# Altium integrated library TI Power Management Linear Regulator Single Channel LDO (0-350mA).IntLib: 1648 symbols (part 31 of 66)
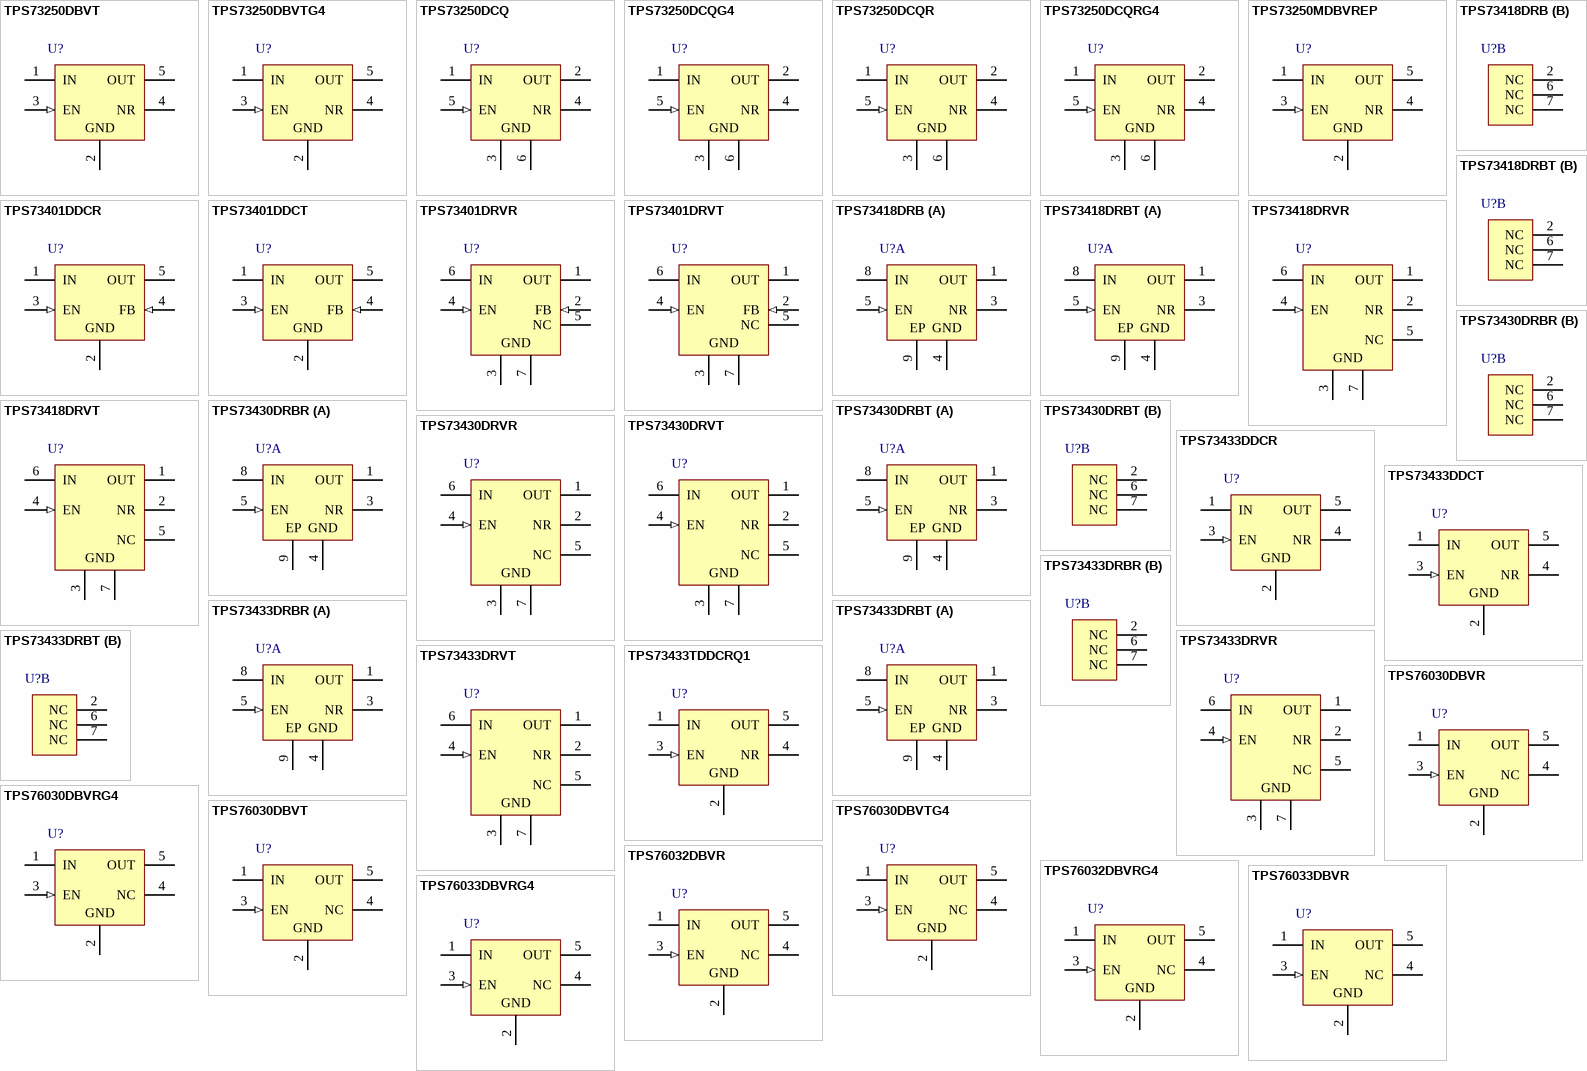
[diagram p72: symbols TPS73250DBVT to TPS76033DBVRG4]

## TPS73401DDCR
designator U?
Single Output High PSRR LDO, 250 mA, Adjustable 1.2 to 6.2 V Output, 2.7 to 6.5 V Input, with Low IQ, 5-pin SOT (DDC), -40 to 125 degC, Green (RoHS & no Sb/Br); Manufacturer: Texas Instruments; PartNumber: TPS73401DDCR; Accuracy(%): 2; Iout(Max)(A): 0.2; Iq(Typ)(mA): 0.04; Rating: Catalog; SubFamily: Single Channel LDO; Vdo(Typ)(mV): 125; Vin(Max)(V): 6.5; Vin(Min)(V): 2.7; Vout Adj(Max)(V): 6.2; Vout Adj(Min)(V): 1.2; DatasheetVersion: SBVS089F; PackageVersion: 4204403-2/E; PackageReference: DDC5; PackageDescription: 5-Pin Plastic Small Outline, Body 2.9 x 1.6 mm, 0.95 mm Pitch; Supplier 1: Digi-Key; Supplier Part Number 1: TPS73401DDCR-ND; Supplier 2: Newark; Supplier Part Number 2: 50R8165; Supplier 3: Mouser; Supplier Part Number 3: 595-TPS73401DDCR; Eco-Plan: Green (RoHS & no Sb/Br); Mounting Technology: Surface Mount; Code_JEDEC: MO-193; ComponentLink1Description: Manufacturer URL; ComponentLink1URL: http://www.ti.com/; ComponentLink2Description: Datasheet; ComponentLink2URL: http://www.ti.com/general/docs/lit/getliterature.tsp?genericPartNumber=TPS73401&fileType=pdf; ComponentLink3Description: Package Specification; ComponentLink3URL: http://www.ti.com/litv/pdf/mpds123d
footprint TI-DDC5_N (SOT23, 5-Leads, Body 2.9x1.6mm, Pitch 0.95mm, IPC Medium Density)
footprint TI-DDC5_L (SOT23, 5-Leads, Body 2.9x1.6mm, Pitch 0.95mm, IPC High Density)
footprint TI-DDC5_M (SOT23, 5-Leads, Body 2.9x1.6mm, Pitch 0.95mm, IPC Low Density)
pins: 1 IN (power) "Input pin. A small capacitor is needed from this pin to ground to assure stability. Typical input capacitor = 1.0uF. Both input and output capacitor grounds should be tied back to the IC ground with no significant impedance (See Datasheet)", 2 GND (power) "Ground pin.", 3 EN (in) "Driving the enable pin (EN) over 1.2V turns on the regulator. Driving this pin below 0.4V puts the regulator into shutdown mode, reducing operating current to 18nA typical.", 4 FB (in) "Feedback pin (FB) for adjustable versions", 5 OUT (power) "Regulated output voltage pin. A small 1-uF ceramic capacitor is needed from this pin to ground to assure stability.See Input and Output Capacitor Requirements in the Application Information section for more details."

## TPS73401DDCT
designator U?
Single Output High PSRR LDO, 250 mA, Adjustable 1.2 to 6.2 V Output, 2.7 to 6.5 V Input, with Low IQ, 5-pin SOT (DDC), -40 to 125 degC, Green (RoHS & no Sb/Br); Manufacturer: Texas Instruments; PartNumber: TPS73401DDCT; Accuracy(%): 2; Iout(Max)(A): 0.2; Iq(Typ)(mA): 0.04; Rating: Catalog; SubFamily: Single Channel LDO; Vdo(Typ)(mV): 125; Vin(Max)(V): 6.5; Vin(Min)(V): 2.7; Vout Adj(Max)(V): 6.2; Vout Adj(Min)(V): 1.2; DatasheetVersion: SBVS089F; PackageVersion: 4204403-2/E; PackageReference: DDC5; PackageDescription: 5-Pin Plastic Small Outline, Body 2.9 x 1.6 mm, 0.95 mm Pitch; Supplier 1: Digi-Key; Supplier Part Number 1: 296-25163-2-ND; Supplier 2: Digi-Key; Supplier Part Number 2: 296-25163-1-ND; Supplier 3: Digi-Key; Supplier Part Number 3: 296-25163-6-ND; Supplier 4: Newark; Supplier Part Number 4: 50R8166; Supplier 5: Mouser; Supplier Part Number 5: 595-TPS73401DDCT; Eco-Plan: Green (RoHS & no Sb/Br); Mounting Technology: Surface Mount; Code_JEDEC: MO-193; ComponentLink1Description: Manufacturer URL; ComponentLink1URL: http://www.ti.com/; ComponentLink2Description: Datasheet; ComponentLink2URL: http://www.ti.com/general/docs/lit/getliterature.tsp?genericPartNumber=TPS73401&fileType=pdf; ComponentLink3Description: Package Specification; ComponentLink3URL: http://www.ti.com/litv/pdf/mpds123d
footprint TI-DDC5_N (SOT23, 5-Leads, Body 2.9x1.6mm, Pitch 0.95mm, IPC Medium Density)
footprint TI-DDC5_L (SOT23, 5-Leads, Body 2.9x1.6mm, Pitch 0.95mm, IPC High Density)
footprint TI-DDC5_M (SOT23, 5-Leads, Body 2.9x1.6mm, Pitch 0.95mm, IPC Low Density)
pins: 1 IN (power) "Input pin. A small capacitor is needed from this pin to ground to assure stability. Typical input capacitor = 1.0uF. Both input and output capacitor grounds should be tied back to the IC ground with no significant impedance (See Datasheet)", 2 GND (power) "Ground pin.", 3 EN (in) "Driving the enable pin (EN) over 1.2V turns on the regulator. Driving this pin below 0.4V puts the regulator into shutdown mode, reducing operating current to 18nA typical.", 4 FB (in) "Feedback pin (FB) for adjustable versions", 5 OUT (power) "Regulated output voltage pin. A small 1-uF ceramic capacitor is needed from this pin to ground to assure stability.See Input and Output Capacitor Requirements in the Application Information section for more details."

## TPS73401DRVR
designator U?
Single Output High PSRR LDO, 250 mA, Adjustable 1.2 to 6.2 V Output, 2.7 to 6.5 V Input, with Low IQ, 6-pin SON (DRV), -40 to 125 degC, Green (RoHS & no Sb/Br); Manufacturer: Texas Instruments; PartNumber: TPS73401DRVR; Accuracy(%): 2; Iout(Max)(A): 0.2; Iq(Typ)(mA): 0.04; Rating: Catalog; SubFamily: Single Channel LDO; Vdo(Typ)(mV): 125; Vin(Max)(V): 6.5; Vin(Min)(V): 2.7; Vout Adj(Max)(V): 6.2; Vout Adj(Min)(V): 1.2; DatasheetVersion: SBVS089F; PackageVersion: 4206925/E; PackageReference: DRV6-1600X1000TP; PackageDescription: 6-Pin Plastic Small Outline No-Lead, Body 2 x 2 mm, Pitch 0.65 mm; Supplier 1: Digi-Key; Supplier Part Number 1: TPS73401DRVR-ND; Supplier 2: Newark; Supplier Part Number 2: 09R6704; Supplier 3: Mouser; Supplier Part Number 3: 595-TPS73401DRVR; Eco-Plan: Green (RoHS & no Sb/Br); Mounting Technology: Surface Mount; ComponentLink1Description: Manufacturer URL; ComponentLink1URL: http://www.ti.com/; ComponentLink2Description: Datasheet; ComponentLink2URL: http://www.ti.com/general/docs/lit/getliterature.tsp?genericPartNumber=TPS73401&fileType=pdf; ComponentLink3Description: Package Specification; ComponentLink3URL: http://www.ti.com/litv/pdf/mpds216d
footprint TI-DRV6-1600X1000TP_V (SON, 6-Leads, Body 2x2mm, Pitch 0.65mm, Thermal Pad 1X1.6mm)
pins: 1 OUT (power) "Output of the regulator. A small capacitor (total typical capacitance = 2.0uF ceramic) is needed from this pin to ground to assure stability.", 2 FB (in) "Adjustable version only; this is the input to the control loop error amplifier, and is used to set the output voltage of the device.", 3 GND (power) "Ground", 4 EN (in) "Driving the enable pin (EN) high turns on the regulator. Driving this pin low puts the regulator into shutdown mode. EN can be connected to IN if not used.", 5 NC "Not internally connected. This pin must either be left open, or tied to GND.", 6 IN (power) "Input supply.", 7 GND (power) "The pad must be tied to GND."

## TPS73401DRVT
designator U?
Single Output High PSRR LDO, 250 mA, Adjustable 1.2 to 6.2 V Output, 2.7 to 6.5 V Input, with Low IQ, 6-pin SON (DRV), -40 to 125 degC, Green (RoHS & no Sb/Br); Manufacturer: Texas Instruments; PartNumber: TPS73401DRVT; Accuracy(%): 2; Iout(Max)(A): 0.2; Iq(Typ)(mA): 0.04; Rating: Catalog; SubFamily: Single Channel LDO; Vdo(Typ)(mV): 125; Vin(Max)(V): 6.5; Vin(Min)(V): 2.7; Vout Adj(Max)(V): 6.2; Vout Adj(Min)(V): 1.2; DatasheetVersion: SBVS089F; PackageVersion: 4206925/E; PackageReference: DRV6-1600X1000TP; PackageDescription: 6-Pin Plastic Small Outline No-Lead, Body 2 x 2 mm, Pitch 0.65 mm; Supplier 1: Digi-Key; Supplier Part Number 1: 296-24286-2-ND; Supplier 2: Digi-Key; Supplier Part Number 2: 296-24286-1-ND; Supplier 3: Digi-Key; Supplier Part Number 3: 296-24286-6-ND; Supplier 4: Farnell; Supplier Part Number 4: 1710828RL; Supplier 5: Newark; Supplier Part Number 5: 04R6651; Supplier 6: Mouser; Supplier Part Number 6: 595-TPS73401DRVT; Eco-Plan: Green (RoHS & no Sb/Br); Mounting Technology: Surface Mount; ComponentLink1Description: Manufacturer URL; ComponentLink1URL: http://www.ti.com/; ComponentLink2Description: Datasheet; ComponentLink2URL: http://www.ti.com/general/docs/lit/getliterature.tsp?genericPartNumber=TPS73401&fileType=pdf; ComponentLink3Description: Package Specification; ComponentLink3URL: http://www.ti.com/litv/pdf/mpds216d
footprint TI-DRV6-1600X1000TP_V (SON, 6-Leads, Body 2x2mm, Pitch 0.65mm, Thermal Pad 1X1.6mm)
pins: 1 OUT (power) "Output of the regulator. A small capacitor (total typical capacitance = 2.0uF ceramic) is needed from this pin to ground to assure stability.", 2 FB (in) "Adjustable version only; this is the input to the control loop error amplifier, and is used to set the output voltage of the device.", 3 GND (power) "Ground", 4 EN (in) "Driving the enable pin (EN) high turns on the regulator. Driving this pin low puts the regulator into shutdown mode. EN can be connected to IN if not used.", 5 NC "Not internally connected. This pin must either be left open, or tied to GND.", 6 IN (power) "Input supply.", 7 GND (power) "The pad must be tied to GND."

## TPS73418DRB
designator U?
Single Output High PSRR LDO, 250 mA, Fixed 1.8 V Output, 2.7 to 6.5 V Input, with Low IQ, 8-pin SON (DRB), -40 to 125 degC; Manufacturer: Texas Instruments; PartNumber: TPS73418DRB; Accuracy(%): 2; Fixed Output Options(V): 1.8; Iout(Max)(A): 0.2; Iq(Typ)(mA): 0.04; Rating: Catalog; SubFamily: Single Channel LDO; Vdo(Typ)(mV): 125; Vin(Max)(V): 6.5; Vin(Min)(V): 2.7; DatasheetVersion: SBVS089F; PackageVersion: 4203482-2/K; PackageReference: DRB8-2400X1650TP; PackageDescription: 8-Pin Plastic Small Outline, Body 3 x 3 mm, Pitch 0.65 mm; Vout Adj(Max)(V): 1.8; Vout Adj(Min)(V): 1.8; Mounting Technology: Surface Mount; ComponentLink1Description: Manufacturer URL; ComponentLink1URL: http://www.ti.com/; ComponentLink2Description: Datasheet; ComponentLink2URL: http://www.ti.com/general/docs/lit/getliterature.tsp?genericPartNumber=TPS73418&fileType=pdf; ComponentLink3Description: Package Specification; ComponentLink3URL: http://www.ti.com/litv/pdf/mpds118h
footprint TI-DRB8-2400X1650TP_V (SON, 8-Leads, Body 3x3mm, Pitch 0.65mm, Thermal Pad 2.4x1.65mm)
part A pins: 1 OUT (power) "Output of the regulator. A small capacitor (total typical capacitance >= 2.0uF ceramic) is needed from this pin to ground to assure stability.", 3 NR "Fixed voltage versions only; connecting an external capacitor to this pin bypasses noise generated by the internal bandgap. This allows output noise to be reduced to very low levels.", 4 GND (power) "Ground. The pad must be tied to GND.", 5 EN (in) "Driving the enable pin (EN) high turns on the regulator. Driving this pin low puts the regulator into shutdown mode. EN can be connected to IN if not used.", 8 IN (power) "Input supply.", 9 EP (power) "The pad must be tied to GND."
part B pins: 2 NC "Not internally connected. This pin must either be left open, or tied to GND.", 6 NC "Not internally connected. This pin must either be left open, or tied to GND.", 7 NC "Not internally connected. This pin must either be left open, or tied to GND."

## TPS73418DRBT
designator U?
Single Output High PSRR LDO, 250 mA, Fixed 1.8 V Output, 2.7 to 6.5 V Input, with Low IQ, 8-pin SON (DRB), -40 to 125 degC; Manufacturer: Texas Instruments; PartNumber: TPS73418DRBT; Accuracy(%): 2; Fixed Output Options(V): 1.8; Iout(Max)(A): 0.2; Iq(Typ)(mA): 0.04; Rating: Catalog; SubFamily: Single Channel LDO; Vdo(Typ)(mV): 125; Vin(Max)(V): 6.5; Vin(Min)(V): 2.7; DatasheetVersion: SBVS089F; PackageVersion: 4203482-2/K; PackageReference: DRB8-2400X1650TP; PackageDescription: 8-Pin Plastic Small Outline, Body 3 x 3 mm, Pitch 0.65 mm; Supplier 1: Mouser; Supplier Part Number 1: N/A; Vout Adj(Max)(V): 1.8; Vout Adj(Min)(V): 1.8; Mounting Technology: Surface Mount; ComponentLink1Description: Manufacturer URL; ComponentLink1URL: http://www.ti.com/; ComponentLink2Description: Datasheet; ComponentLink2URL: http://www.ti.com/general/docs/lit/getliterature.tsp?genericPartNumber=TPS73418&fileType=pdf; ComponentLink3Description: Package Specification; ComponentLink3URL: http://www.ti.com/litv/pdf/mpds118h
footprint TI-DRB8-2400X1650TP_V (SON, 8-Leads, Body 3x3mm, Pitch 0.65mm, Thermal Pad 2.4x1.65mm)
part A pins: 1 OUT (power) "Output of the regulator. A small capacitor (total typical capacitance >= 2.0uF ceramic) is needed from this pin to ground to assure stability.", 3 NR "Fixed voltage versions only; connecting an external capacitor to this pin bypasses noise generated by the internal bandgap. This allows output noise to be reduced to very low levels.", 4 GND (power) "Ground. The pad must be tied to GND.", 5 EN (in) "Driving the enable pin (EN) high turns on the regulator. Driving this pin low puts the regulator into shutdown mode. EN can be connected to IN if not used.", 8 IN (power) "Input supply.", 9 EP (power) "The pad must be tied to GND."
part B pins: 2 NC "Not internally connected. This pin must either be left open, or tied to GND.", 6 NC "Not internally connected. This pin must either be left open, or tied to GND.", 7 NC "Not internally connected. This pin must either be left open, or tied to GND."

## TPS73418DRVR
designator U?
Single Output High PSRR LDO, 250 mA, Fixed 1.8 V Output, 2.7 to 6.5 V Input, with Low IQ, 6-pin SON (DRV), -40 to 125 degC, Green (RoHS & no Sb/Br); Manufacturer: Texas Instruments; PartNumber: TPS73418DRVR; Accuracy(%): 2; Fixed Output Options(V): 1.8; Iout(Max)(A): 0.2; Iq(Typ)(mA): 0.04; Rating: Catalog; SubFamily: Single Channel LDO; Vdo(Typ)(mV): 125; Vin(Max)(V): 6.5; Vin(Min)(V): 2.7; DatasheetVersion: SBVS089F; PackageVersion: 4206925/E; PackageReference: DRV6-1600X1000TP; PackageDescription: 6-Pin Plastic Small Outline No-Lead, Body 2 x 2 mm, Pitch 0.65 mm; Supplier 1: Digi-Key; Supplier Part Number 1: TPS73418DRVR-ND; Supplier 2: Newark; Supplier Part Number 2: 09R6705; Supplier 3: Mouser; Supplier Part Number 3: 595-TPS73418DRVR; Eco-Plan: Green (RoHS & no Sb/Br); Vout Adj(Max)(V): 1.8; Vout Adj(Min)(V): 1.8; Mounting Technology: Surface Mount; ComponentLink1Description: Manufacturer URL; ComponentLink1URL: http://www.ti.com/; ComponentLink2Description: Datasheet; ComponentLink2URL: http://www.ti.com/general/docs/lit/getliterature.tsp?genericPartNumber=TPS73418&fileType=pdf; ComponentLink3Description: Package Specification; ComponentLink3URL: http://www.ti.com/litv/pdf/mpds216d
footprint TI-DRV6-1600X1000TP_V (SON, 6-Leads, Body 2x2mm, Pitch 0.65mm, Thermal Pad 1X1.6mm)
pins: 1 OUT (power) "Output of the regulator. A small capacitor (total typical capacitance >= 2.0uF ceramic) is needed from this pin to ground to assure stability.", 2 NR "Fixed voltage versions only; connecting an external capacitor to this pin bypasses noise generated by the internal bandgap. This allows output noise to be reduced to very low levels.", 3 GND (power) "Ground", 4 EN (in) "Driving the enable pin (EN) high turns on the regulator. Driving this pin low puts the regulator into shutdown mode. EN can be connected to IN if not used.", 5 NC "Not internally connected. This pin must either be left open, or tied to GND.", 6 IN (power) "Input supply.", 7 GND (power) "The pad must be tied to GND."

## TPS73418DRVT
designator U?
Single Output High PSRR LDO, 250 mA, Fixed 1.8 V Output, 2.7 to 6.5 V Input, with Low IQ, 6-pin SON (DRV), -40 to 125 degC, Green (RoHS & no Sb/Br); Manufacturer: Texas Instruments; PartNumber: TPS73418DRVT; Accuracy(%): 2; Fixed Output Options(V): 1.8; Iout(Max)(A): 0.2; Iq(Typ)(mA): 0.04; Rating: Catalog; SubFamily: Single Channel LDO; Vdo(Typ)(mV): 125; Vin(Max)(V): 6.5; Vin(Min)(V): 2.7; DatasheetVersion: SBVS089F; PackageVersion: 4206925/E; PackageReference: DRV6-1600X1000TP; PackageDescription: 6-Pin Plastic Small Outline No-Lead, Body 2 x 2 mm, Pitch 0.65 mm; Supplier 1: Digi-Key; Supplier Part Number 1: 296-24287-2-ND; Supplier 2: Digi-Key; Supplier Part Number 2: 296-24287-1-ND; Supplier 3: Digi-Key; Supplier Part Number 3: 296-24287-6-ND; Supplier 4: Newark; Supplier Part Number 4: 04R6652; Supplier 5: Mouser; Supplier Part Number 5: 595-TPS73418DRVT; Eco-Plan: Green (RoHS & no Sb/Br); Vout Adj(Max)(V): 1.8; Vout Adj(Min)(V): 1.8; Mounting Technology: Surface Mount; ComponentLink1Description: Manufacturer URL; ComponentLink1URL: http://www.ti.com/; ComponentLink2Description: Datasheet; ComponentLink2URL: http://www.ti.com/general/docs/lit/getliterature.tsp?genericPartNumber=TPS73418&fileType=pdf; ComponentLink3Description: Package Specification; ComponentLink3URL: http://www.ti.com/litv/pdf/mpds216d
footprint TI-DRV6-1600X1000TP_V (SON, 6-Leads, Body 2x2mm, Pitch 0.65mm, Thermal Pad 1X1.6mm)
pins: 1 OUT (power) "Output of the regulator. A small capacitor (total typical capacitance >= 2.0uF ceramic) is needed from this pin to ground to assure stability.", 2 NR "Fixed voltage versions only; connecting an external capacitor to this pin bypasses noise generated by the internal bandgap. This allows output noise to be reduced to very low levels.", 3 GND (power) "Ground", 4 EN (in) "Driving the enable pin (EN) high turns on the regulator. Driving this pin low puts the regulator into shutdown mode. EN can be connected to IN if not used.", 5 NC "Not internally connected. This pin must either be left open, or tied to GND.", 6 IN (power) "Input supply.", 7 GND (power) "The pad must be tied to GND."

## TPS73430DRBR
designator U?
Single Output High PSRR LDO, 250 mA, Fixed 3 V Output, 2.7 to 6.5 V Input, with Low IQ, 8-pin SON (DRB), -40 to 125 degC; Manufacturer: Texas Instruments; PartNumber: TPS73430DRBR; Accuracy(%): 2; Fixed Output Options(V): 3; Iout(Max)(A): 0.2; Iq(Typ)(mA): 0.04; Rating: Catalog; SubFamily: Single Channel LDO; Vdo(Typ)(mV): 125; Vin(Max)(V): 6.5; Vin(Min)(V): 2.7; DatasheetVersion: SBVS089F; PackageVersion: 4203482-2/K; PackageReference: DRB8-2400X1650TP; PackageDescription: 8-Pin Plastic Small Outline, Body 3 x 3 mm, Pitch 0.65 mm; Supplier 1: Mouser; Supplier Part Number 1: N/A; Vout Adj(Max)(V): 3; Vout Adj(Min)(V): 3; Mounting Technology: Surface Mount; ComponentLink1Description: Manufacturer URL; ComponentLink1URL: http://www.ti.com/; ComponentLink2Description: Datasheet; ComponentLink2URL: http://www.ti.com/general/docs/lit/getliterature.tsp?genericPartNumber=TPS73430&fileType=pdf; ComponentLink3Description: Package Specification; ComponentLink3URL: http://www.ti.com/litv/pdf/mpds118h
footprint TI-DRB8-2400X1650TP_V (SON, 8-Leads, Body 3x3mm, Pitch 0.65mm, Thermal Pad 2.4x1.65mm)
part A pins: 1 OUT (power) "Output of the regulator. A small capacitor (total typical capacitance >= 2.0 uF ceramic) is needed from this pin to ground to assure stability.", 3 NR "Fixed voltage versions only; connecting an external capacitor to this pin bypasses noise generated by the internal bandgap. This allows output noise to be reduced to very low levels.", 4 GND (power) "Ground. The pad must be tied to GND.", 5 EN (in) "Driving the enable pin (EN) high turns on the regulator. Driving this pin low puts the regulator into shutdownmode .EN can be connected to IN if not used.", 8 IN (power) "Input supply.", 9 EP (power) "The pad must be tied to GND."
part B pins: 2 NC "Not internally connected. This pin must either be left open, or tied to GND.", 6 NC "Not internally connected. This pin must either be left open, or tied to GND.", 7 NC "Not internally connected. This pin must either be left open, or tied to GND."

## TPS73430DRBT
designator U?
Single Output High PSRR LDO, 250 mA, Fixed 3 V Output, 2.7 to 6.5 V Input, with Low IQ, 8-pin SON (DRB), -40 to 125 degC; Manufacturer: Texas Instruments; PartNumber: TPS73430DRBT; Accuracy(%): 2; Fixed Output Options(V): 3; Iout(Max)(A): 0.2; Iq(Typ)(mA): 0.04; Rating: Catalog; SubFamily: Single Channel LDO; Vdo(Typ)(mV): 125; Vin(Max)(V): 6.5; Vin(Min)(V): 2.7; DatasheetVersion: SBVS089F; PackageVersion: 4203482-2/K; PackageReference: DRB8-2400X1650TP; PackageDescription: 8-Pin Plastic Small Outline, Body 3 x 3 mm, Pitch 0.65 mm; Supplier 1: Mouser; Supplier Part Number 1: N/A; Vout Adj(Max)(V): 3; Vout Adj(Min)(V): 3; Mounting Technology: Surface Mount; ComponentLink1Description: Manufacturer URL; ComponentLink1URL: http://www.ti.com/; ComponentLink2Description: Datasheet; ComponentLink2URL: http://www.ti.com/general/docs/lit/getliterature.tsp?genericPartNumber=TPS73430&fileType=pdf; ComponentLink3Description: Package Specification; ComponentLink3URL: http://www.ti.com/litv/pdf/mpds118h
footprint TI-DRB8-2400X1650TP_V (SON, 8-Leads, Body 3x3mm, Pitch 0.65mm, Thermal Pad 2.4x1.65mm)
part A pins: 1 OUT (power) "Output of the regulator. A small capacitor (total typical capacitance >= 2.0 uF ceramic) is needed from this pin to ground to assure stability.", 3 NR "Fixed voltage versions only; connecting an external capacitor to this pin bypasses noise generated by the internal bandgap. This allows output noise to be reduced to very low levels.", 4 GND (power) "Ground. The pad must be tied to GND.", 5 EN (in) "Driving the enable pin (EN) high turns on the regulator. Driving this pin low puts the regulator into shutdownmode .EN can be connected to IN if not used.", 8 IN (power) "Input supply.", 9 EP (power) "The pad must be tied to GND."
part B pins: 2 NC "Not internally connected. This pin must either be left open, or tied to GND.", 6 NC "Not internally connected. This pin must either be left open, or tied to GND.", 7 NC "Not internally connected. This pin must either be left open, or tied to GND."

## TPS73430DRVR
designator U?
Single Output High PSRR LDO, 250 mA, Fixed 3 V Output, 2.7 to 6.5 V Input, with Low IQ, 6-pin SON (DRV), -40 to 125 degC, Green (RoHS & no Sb/Br); Manufacturer: Texas Instruments; PartNumber: TPS73430DRVR; Accuracy(%): 2; Fixed Output Options(V): 3; Iout(Max)(A): 0.2; Iq(Typ)(mA): 0.04; Rating: Catalog; SubFamily: Single Channel LDO; Vdo(Typ)(mV): 125; Vin(Max)(V): 6.5; Vin(Min)(V): 2.7; DatasheetVersion: SBVS089F; PackageVersion: 4206925/E; PackageReference: DRV6-1600X1000TP; PackageDescription: 6-Pin Plastic Small Outline No-Lead, Body 2 x 2 mm, Pitch 0.65 mm; Supplier 1: Digi-Key; Supplier Part Number 1: TPS73430DRVR-ND; Supplier 2: Newark; Supplier Part Number 2: 09R6706; Supplier 3: Mouser; Supplier Part Number 3: 595-TPS73430DRVR; Eco-Plan: Green (RoHS & no Sb/Br); Vout Adj(Max)(V): 3; Vout Adj(Min)(V): 3; Mounting Technology: Surface Mount; ComponentLink1Description: Manufacturer URL; ComponentLink1URL: http://www.ti.com/; ComponentLink2Description: Datasheet; ComponentLink2URL: http://www.ti.com/general/docs/lit/getliterature.tsp?genericPartNumber=TPS73430&fileType=pdf; ComponentLink3Description: Package Specification; ComponentLink3URL: http://www.ti.com/litv/pdf/mpds216d
footprint TI-DRV6-1600X1000TP_V (SON, 6-Leads, Body 2x2mm, Pitch 0.65mm, Thermal Pad 1X1.6mm)
pins: 1 OUT (power) "Output of the regulator. A small capacitor (total typical capacitance >= 2.0uF ceramic) is needed from this pin to ground to assure stability.", 2 NR "Fixed voltage versions only; connecting an external capacitor to this pin bypasses noise generated by the internal bandgap. This allows output noise to be reduced to very low levels.", 3 GND (power) "Ground", 4 EN (in) "Driving the enable pin (EN) high turns on the regulator. Driving this pin low puts the regulator into shutdown mode. EN can be connected to IN if not used.", 5 NC "Not internally connected. This pin must either be left open, or tied to GND.", 6 IN (power) "Input supply.", 7 GND (power) "The pad must be tied to GND."

## TPS73430DRVT
designator U?
Single Output High PSRR LDO, 250 mA, Fixed 3 V Output, 2.7 to 6.5 V Input, with Low IQ, 6-pin SON (DRV), -40 to 125 degC, Green (RoHS & no Sb/Br); Manufacturer: Texas Instruments; PartNumber: TPS73430DRVT; Accuracy(%): 2; Fixed Output Options(V): 3; Iout(Max)(A): 0.2; Iq(Typ)(mA): 0.04; Rating: Catalog; SubFamily: Single Channel LDO; Vdo(Typ)(mV): 125; Vin(Max)(V): 6.5; Vin(Min)(V): 2.7; DatasheetVersion: SBVS089F; PackageVersion: 4206925/E; PackageReference: DRV6-1600X1000TP; PackageDescription: 6-Pin Plastic Small Outline No-Lead, Body 2 x 2 mm, Pitch 0.65 mm; Supplier 1: Digi-Key; Supplier Part Number 1: 296-24288-2-ND; Supplier 2: Digi-Key; Supplier Part Number 2: 296-24288-1-ND; Supplier 3: Digi-Key; Supplier Part Number 3: 296-24288-6-ND; Supplier 4: Farnell; Supplier Part Number 4: 1710830; Supplier 5: Farnell; Supplier Part Number 5: 1710830RL; Supplier 6: Newark; Supplier Part Number 6: 04R6653; Supplier 7: Mouser; Supplier Part Number 7: 595-TPS73430DRVT; Eco-Plan: Green (RoHS & no Sb/Br); Vout Adj(Max)(V): 3; Vout Adj(Min)(V): 3; Mounting Technology: Surface Mount; ComponentLink1Description: Manufacturer URL; ComponentLink1URL: http://www.ti.com/; ComponentLink2Description: Datasheet; ComponentLink2URL: http://www.ti.com/general/docs/lit/getliterature.tsp?genericPartNumber=TPS73430&fileType=pdf; ComponentLink3Description: Package Specification; ComponentLink3URL: http://www.ti.com/litv/pdf/mpds216d
footprint TI-DRV6-1600X1000TP_V (SON, 6-Leads, Body 2x2mm, Pitch 0.65mm, Thermal Pad 1X1.6mm)
pins: 1 OUT (power) "Output of the regulator. A small capacitor (total typical capacitance >= 2.0uF ceramic) is needed from this pin to ground to assure stability.", 2 NR "Fixed voltage versions only; connecting an external capacitor to this pin bypasses noise generated by the internal bandgap. This allows output noise to be reduced to very low levels.", 3 GND (power) "Ground", 4 EN (in) "Driving the enable pin (EN) high turns on the regulator. Driving this pin low puts the regulator into shutdown mode. EN can be connected to IN if not used.", 5 NC "Not internally connected. This pin must either be left open, or tied to GND.", 6 IN (power) "Input supply.", 7 GND (power) "The pad must be tied to GND."

## TPS73433DDCR
designator U?
Single Output High PSRR LDO, 250 mA, Fixed 3.3 V Output, 2.7 to 6.5 V Input, with Low IQ, 5-pin SOT (DDC), -40 to 125 degC, Green (RoHS & no Sb/Br); Manufacturer: Texas Instruments; PartNumber: TPS73433DDCR; Accuracy(%): 2; Fixed Output Options(V): 3.3; Iout(Max)(A): 0.2; Iq(Typ)(mA): 0.04; Rating: Catalog; SubFamily: Single Channel LDO; Vdo(Typ)(mV): 125; Vin(Max)(V): 6.5; Vin(Min)(V): 2.7; DatasheetVersion: SBVS089F; PackageVersion: 4204403-2/E; PackageReference: DDC5; PackageDescription: 5-Pin Plastic Small Outline, Body 2.9 x 1.6 mm, 0.95 mm Pitch; Supplier 1: Digi-Key; Supplier Part Number 1: TPS73433DDCR-ND; Supplier 2: Mouser; Supplier Part Number 2: 595-TPS73433DDCR; Eco-Plan: Green (RoHS & no Sb/Br); Vout Adj(Max)(V): 3.3; Vout Adj(Min)(V): 3.3; Mounting Technology: Surface Mount; Code_JEDEC: MO-193; ComponentLink1Description: Manufacturer URL; ComponentLink1URL: http://www.ti.com/; ComponentLink2Description: Datasheet; ComponentLink2URL: http://www.ti.com/general/docs/lit/getliterature.tsp?genericPartNumber=TPS73433&fileType=pdf; ComponentLink3Description: Package Specification; ComponentLink3URL: http://www.ti.com/litv/pdf/mpds123d
footprint TI-DDC5_N (SOT23, 5-Leads, Body 2.9x1.6mm, Pitch 0.95mm, IPC Medium Density)
footprint TI-DDC5_L (SOT23, 5-Leads, Body 2.9x1.6mm, Pitch 0.95mm, IPC High Density)
footprint TI-DDC5_M (SOT23, 5-Leads, Body 2.9x1.6mm, Pitch 0.95mm, IPC Low Density)
pins: 1 IN (power) "Input supply.", 2 GND (power) "Ground.", 3 EN (in) "Driving the enable pin (EN) high turns on the regulator .Driving this pin low puts the regulator into shutdown mode.EN can be connected to IN if not used.", 4 NR "Fixed voltage versions only; connecting an external capacitor to this pin bypasses noise generated by the internal bandgap. This capacitor allows output noise to be reduced to very low levels.", 5 OUT (power) "Output for the regulator. A small capacitor (total typical capacitance >= 2.0uF ceramic) is needed from this pin to ground to assure stability."

## TPS73433DDCT
designator U?
Single Output High PSRR LDO, 250 mA, Fixed 3.3 V Output, 2.7 to 6.5 V Input, with Low IQ, 5-pin SOT (DDC), -40 to 125 degC, Green (RoHS & no Sb/Br); Manufacturer: Texas Instruments; PartNumber: TPS73433DDCT; Accuracy(%): 2; Fixed Output Options(V): 3.3; Iout(Max)(A): 0.2; Iq(Typ)(mA): 0.04; Rating: Catalog; SubFamily: Single Channel LDO; Vdo(Typ)(mV): 125; Vin(Max)(V): 6.5; Vin(Min)(V): 2.7; DatasheetVersion: SBVS089F; PackageVersion: 4204403-2/E; PackageReference: DDC5; PackageDescription: 5-Pin Plastic Small Outline, Body 2.9 x 1.6 mm, 0.95 mm Pitch; Supplier 1: Digi-Key; Supplier Part Number 1: 296-25164-2-ND; Supplier 2: Digi-Key; Supplier Part Number 2: 296-25164-1-ND; Supplier 3: Digi-Key; Supplier Part Number 3: 296-25164-6-ND; Supplier 4: Newark; Supplier Part Number 4: 50R8169; Supplier 5: Mouser; Supplier Part Number 5: 595-TPS73433DDCT; Eco-Plan: Green (RoHS & no Sb/Br); Vout Adj(Max)(V): 3.3; Vout Adj(Min)(V): 3.3; Mounting Technology: Surface Mount; Code_JEDEC: MO-193; ComponentLink1Description: Manufacturer URL; ComponentLink1URL: http://www.ti.com/; ComponentLink2Description: Datasheet; ComponentLink2URL: http://www.ti.com/general/docs/lit/getliterature.tsp?genericPartNumber=TPS73433&fileType=pdf; ComponentLink3Description: Package Specification; ComponentLink3URL: http://www.ti.com/litv/pdf/mpds123d
footprint TI-DDC5_N (SOT23, 5-Leads, Body 2.9x1.6mm, Pitch 0.95mm, IPC Medium Density)
footprint TI-DDC5_L (SOT23, 5-Leads, Body 2.9x1.6mm, Pitch 0.95mm, IPC High Density)
footprint TI-DDC5_M (SOT23, 5-Leads, Body 2.9x1.6mm, Pitch 0.95mm, IPC Low Density)
pins: 1 IN (power) "Input supply.", 2 GND (power) "Ground.", 3 EN (in) "Driving the enable pin (EN) high turns on the regulator .Driving this pin low puts the regulator into shutdown mode.EN can be connected to IN if not used.", 4 NR "Fixed voltage versions only; connecting an external capacitor to this pin bypasses noise generated by the internal bandgap. This capacitor allows output noise to be reduced to very low levels.", 5 OUT (power) "Output for the regulator. A small capacitor (total typical capacitance >= 2.0uF ceramic) is needed from this pin to ground to assure stability."

## TPS73433DRBR
designator U?
Single Output High PSRR LDO, 250 mA, Fixed 3.3 V Output, 2.7 to 6.5 V Input, with Low IQ, 8-pin SON (DRB), -40 to 125 degC; Manufacturer: Texas Instruments; PartNumber: TPS73433DRBR; Accuracy(%): 2; Fixed Output Options(V): 3.3; Iout(Max)(A): 0.2; Iq(Typ)(mA): 0.04; Rating: Catalog; SubFamily: Single Channel LDO; Vdo(Typ)(mV): 125; Vin(Max)(V): 6.5; Vin(Min)(V): 2.7; DatasheetVersion: SBVS089F; PackageVersion: 4203482-2/K; PackageReference: DRB8-2400X1650TP; PackageDescription: 8-Pin Plastic Small Outline, Body 3 x 3 mm, Pitch 0.65 mm; Supplier 1: Mouser; Supplier Part Number 1: N/A; Vout Adj(Max)(V): 3.3; Vout Adj(Min)(V): 3.3; Mounting Technology: Surface Mount; ComponentLink1Description: Manufacturer URL; ComponentLink1URL: http://www.ti.com/; ComponentLink2Description: Datasheet; ComponentLink2URL: http://www.ti.com/general/docs/lit/getliterature.tsp?genericPartNumber=TPS73433&fileType=pdf; ComponentLink3Description: Package Specification; ComponentLink3URL: http://www.ti.com/litv/pdf/mpds118h
footprint TI-DRB8-2400X1650TP_V (SON, 8-Leads, Body 3x3mm, Pitch 0.65mm, Thermal Pad 2.4x1.65mm)
part A pins: 1 OUT (power) "Output of the regulator. A small capacitor (total typical capacitance >= 2.0uF ceramic) is needed from this pin to ground to assure stability.", 3 NR "Fixed voltage versions only; connecting an external capacitor to this pin bypasses noise generated by the internal bandgap. This allows output noise to be reduced to very low levels.", 4 GND (power) "Ground. The pad must be tied to GND.", 5 EN (in) "Driving the enable pin (EN) high turns on the regulator. Driving this pin low puts the regulator into shutdown mode. EN can be connected to IN if not used.", 8 IN (power) "Input supply.", 9 EP (power) "The pad must be tied to GND."
part B pins: 2 NC "Not internally connected. This pin must either be left open, or tied to GND.", 6 NC "Not internally connected. This pin must either be left open, or tied to GND.", 7 NC "Not internally connected. This pin must either be left open, or tied to GND."

## TPS73433DRBT
designator U?
Single Output High PSRR LDO, 250 mA, Fixed 3.3 V Output, 2.7 to 6.5 V Input, with Low IQ, 8-pin SON (DRB), -40 to 125 degC; Manufacturer: Texas Instruments; PartNumber: TPS73433DRBT; Accuracy(%): 2; Fixed Output Options(V): 3.3; Iout(Max)(A): 0.2; Iq(Typ)(mA): 0.04; Rating: Catalog; SubFamily: Single Channel LDO; Vdo(Typ)(mV): 125; Vin(Max)(V): 6.5; Vin(Min)(V): 2.7; DatasheetVersion: SBVS089F; PackageVersion: 4203482-2/K; PackageReference: DRB8-2400X1650TP; PackageDescription: 8-Pin Plastic Small Outline, Body 3 x 3 mm, Pitch 0.65 mm; Supplier 1: Mouser; Supplier Part Number 1: N/A; Vout Adj(Max)(V): 3.3; Vout Adj(Min)(V): 3.3; Mounting Technology: Surface Mount; ComponentLink1Description: Manufacturer URL; ComponentLink1URL: http://www.ti.com/; ComponentLink2Description: Datasheet; ComponentLink2URL: http://www.ti.com/general/docs/lit/getliterature.tsp?genericPartNumber=TPS73433&fileType=pdf; ComponentLink3Description: Package Specification; ComponentLink3URL: http://www.ti.com/litv/pdf/mpds118h
footprint TI-DRB8-2400X1650TP_V (SON, 8-Leads, Body 3x3mm, Pitch 0.65mm, Thermal Pad 2.4x1.65mm)
part A pins: 1 OUT (power) "Output of the regulator. A small capacitor (total typical capacitance >= 2.0uF ceramic) is needed from this pin to ground to assure stability.", 3 NR "Fixed voltage versions only; connecting an external capacitor to this pin bypasses noise generated by the internal bandgap. This allows output noise to be reduced to very low levels.", 4 GND (power) "Ground. The pad must be tied to GND.", 5 EN (in) "Driving the enable pin (EN) high turns on the regulator. Driving this pin low puts the regulator into shutdown mode. EN can be connected to IN if not used.", 8 IN (power) "Input supply.", 9 EP (power) "The pad must be tied to GND."
part B pins: 2 NC "Not internally connected. This pin must either be left open, or tied to GND.", 6 NC "Not internally connected. This pin must either be left open, or tied to GND.", 7 NC "Not internally connected. This pin must either be left open, or tied to GND."

## TPS73433DRVR
designator U?
Single Output High PSRR LDO, 250 mA, Fixed 3.3 V Output, 2.7 to 6.5 V Input, with Low IQ, 6-pin SON (DRV), -40 to 125 degC, Green (RoHS & no Sb/Br); Manufacturer: Texas Instruments; PartNumber: TPS73433DRVR; Accuracy(%): 2; Fixed Output Options(V): 3.3; Iout(Max)(A): 0.2; Iq(Typ)(mA): 0.04; Rating: Catalog; SubFamily: Single Channel LDO; Vdo(Typ)(mV): 125; Vin(Max)(V): 6.5; Vin(Min)(V): 2.7; DatasheetVersion: SBVS089F; PackageVersion: 4206925/E; PackageReference: DRV6-1600X1000TP; PackageDescription: 6-Pin Plastic Small Outline No-Lead, Body 2 x 2 mm, Pitch 0.65 mm; Supplier 1: Digi-Key; Supplier Part Number 1: 296-24174-2-ND; Supplier 2: Digi-Key; Supplier Part Number 2: 296-24174-1-ND; Supplier 3: Digi-Key; Supplier Part Number 3: 296-24174-6-ND; Supplier 4: Newark; Supplier Part Number 4: 09R6707; Supplier 5: Mouser; Supplier Part Number 5: 595-TPS73433DRVR; Eco-Plan: Green (RoHS & no Sb/Br); Vout Adj(Max)(V): 3.3; Vout Adj(Min)(V): 3.3; Mounting Technology: Surface Mount; ComponentLink1Description: Manufacturer URL; ComponentLink1URL: http://www.ti.com/; ComponentLink2Description: Datasheet; ComponentLink2URL: http://www.ti.com/general/docs/lit/getliterature.tsp?genericPartNumber=TPS73433&fileType=pdf; ComponentLink3Description: Package Specification; ComponentLink3URL: http://www.ti.com/litv/pdf/mpds216d
footprint TI-DRV6-1600X1000TP_V (SON, 6-Leads, Body 2x2mm, Pitch 0.65mm, Thermal Pad 1X1.6mm)
pins: 1 OUT (power) "Output of the regulator. A small capacitor (total typical capacitance >= 2.0uF ceramic) is needed from this pin to ground to assure stability.", 2 NR "Fixed voltage versions only; connecting an external capacitor to this pin bypasses noise generated by the internal bandgap. This allows output noise to be reduced to very low levels.", 3 GND (power) "Ground", 4 EN (in) "Driving the enable pin (EN) high turns on the regulator. Driving this pin low puts the regulator into shutdown mode. EN can be connected to IN if not used.", 5 NC "Not internally connected. This pin must either be left open, or tied to GND.", 6 IN (power) "Input supply.", 7 GND (power) "The pad must be tied to GND."

## TPS73433DRVT
designator U?
Single Output High PSRR LDO, 250 mA, Fixed 3.3 V Output, 2.7 to 6.5 V Input, with Low IQ, 6-pin SON (DRV), -40 to 125 degC, Green (RoHS & no Sb/Br); Manufacturer: Texas Instruments; PartNumber: TPS73433DRVT; Accuracy(%): 2; Fixed Output Options(V): 3.3; Iout(Max)(A): 0.2; Iq(Typ)(mA): 0.04; Rating: Catalog; SubFamily: Single Channel LDO; Vdo(Typ)(mV): 125; Vin(Max)(V): 6.5; Vin(Min)(V): 2.7; DatasheetVersion: SBVS089F; PackageVersion: 4206925/E; PackageReference: DRV6-1600X1000TP; PackageDescription: 6-Pin Plastic Small Outline No-Lead, Body 2 x 2 mm, Pitch 0.65 mm; Supplier 1: Digi-Key; Supplier Part Number 1: 296-32556-2-ND; Supplier 2: Digi-Key; Supplier Part Number 2: 296-32556-1-ND; Supplier 3: Digi-Key; Supplier Part Number 3: 296-32556-6-ND; Supplier 4: Newark; Supplier Part Number 4: 09R6708; Supplier 5: Mouser; Supplier Part Number 5: 595-TPS73433DRVT; Eco-Plan: Green (RoHS & no Sb/Br); Vout Adj(Max)(V): 3.3; Vout Adj(Min)(V): 3.3; Mounting Technology: Surface Mount; ComponentLink1Description: Manufacturer URL; ComponentLink1URL: http://www.ti.com/; ComponentLink2Description: Datasheet; ComponentLink2URL: http://www.ti.com/general/docs/lit/getliterature.tsp?genericPartNumber=TPS73433&fileType=pdf; ComponentLink3Description: Package Specification; ComponentLink3URL: http://www.ti.com/litv/pdf/mpds216d
footprint TI-DRV6-1600X1000TP_V (SON, 6-Leads, Body 2x2mm, Pitch 0.65mm, Thermal Pad 1X1.6mm)
pins: 1 OUT (power) "Output of the regulator. A small capacitor (total typical capacitance >= 2.0uF ceramic) is needed from this pin to ground to assure stability.", 2 NR "Fixed voltage versions only; connecting an external capacitor to this pin bypasses noise generated by the internal bandgap. This allows output noise to be reduced to very low levels.", 3 GND (power) "Ground", 4 EN (in) "Driving the enable pin (EN) high turns on the regulator. Driving this pin low puts the regulator into shutdown mode. EN can be connected to IN if not used.", 5 NC "Not internally connected. This pin must either be left open, or tied to GND.", 6 IN (power) "Input supply.", 7 GND (power) "The pad must be tied to GND."

## TPS73433TDDCRQ1
designator U?
Single Output High PSRR LDO, 250 mA, Fixed 3.3 V Output, 2.7 to 6.5 V Input, with Low IQ, 5-pin SOT (DDC), -40 to 105 degC, Green (RoHS & no Sb/Br); Manufacturer: Texas Instruments; PartNumber: TPS73433TDDCRQ1; Accuracy(%): 2; Fixed Output Options(V): 3.3; Iout(Max)(A): 0.2; Iq(Typ)(mA): 0.04; Rating: Automotive; SubFamily: Single Channel LDO; Vdo(Typ)(mV): 125; Vin(Max)(V): 6.5; Vin(Min)(V): 2.7; DatasheetVersion: SBVS185; PackageVersion: 4204403-2/E; PackageReference: DDC5; PackageDescription: 5-Pin Plastic Small Outline, Body 2.9 x 1.6 mm, 0.95 mm Pitch; Supplier 1: Digi-Key; Supplier Part Number 1: TPS73433TDDCRQ1-ND; Supplier 2: Mouser; Supplier Part Number 2: 595-TPS73433TDDCRQ1; Eco-Plan: Green (RoHS & no Sb/Br); Vout Adj(Max)(V): 3.3; Vout Adj(Min)(V): 3.3; Mounting Technology: Surface Mount; Code_JEDEC: MO-193; ComponentLink1Description: Manufacturer URL; ComponentLink1URL: http://www.ti.com/; ComponentLink2Description: Datasheet; ComponentLink2URL: http://www.ti.com/general/docs/lit/getliterature.tsp?genericPartNumber=TPS73433-Q1&fileType=pdf; ComponentLink3Description: Package Specification; ComponentLink3URL: http://www.ti.com/litv/pdf/mpds123d
footprint TI-DDC5_N (SOT23, 5-Leads, Body 2.9x1.6mm, Pitch 0.95mm, IPC Medium Density)
footprint TI-DDC5_L (SOT23, 5-Leads, Body 2.9x1.6mm, Pitch 0.95mm, IPC High Density)
footprint TI-DDC5_M (SOT23, 5-Leads, Body 2.9x1.6mm, Pitch 0.95mm, IPC Low Density)
pins: 1 IN (power) "Input supply.", 2 GND (power) "Ground.", 3 EN (in) "Driving the enable pin (EN) high turns on the regulator .Driving this pin low puts the regulator into shutdown mode.EN can be connected to IN if not used.", 4 NR "Fixed voltage versions only; connecting an external capacitor to this pin bypasses noise generated by the internal bandgap. This capacitor allows output noise to be reduced to very low levels.", 5 OUT (power) "Output for the regulator. A small capacitor (total typical capacitance >= 2.0uF ceramic) is needed from this pin to ground to assure stability."

## TPS76030DBVR
designator U?
Single Output LDO, 50 mA, Fixed 3 V Output, 3.2 to 16 V Input, with Low IQ, 5-pin SOT-23 (DBV), -40 to 125 degC, Green (RoHS & no Sb/Br); Manufacturer: Texas Instruments; PartNumber: TPS76030DBVR; Accuracy(%): 2; Fixed Output Options(V): 3; Iout(Max)(A): 0.05; Iq(Typ)(mA): 0.8; Rating: Catalog; SubFamily: Single Channel LDO; Vdo(Typ)(mV): 120; Vin(Max)(V): 16; Vin(Min)(V): 3.2; DatasheetVersion: SLVS144D; PackageVersion: 4073253-4/K; PackageReference: DBV5; PackageDescription: 5-Pin Plastic Small Outline, Body 1.60 × 2.90 mm, Pitch 0.95 mm; Supplier 1: Digi-Key; Supplier Part Number 1: 296-1363-2-ND; Supplier 2: Digi-Key; Supplier Part Number 2: 296-1363-1-ND; Supplier 3: Digi-Key; Supplier Part Number 3: 296-1363-6-ND; Supplier 4: Farnell; Supplier Part Number 4: 9854525; Supplier 5: Newark; Supplier Part Number 5: 35K1343; Supplier 6: Mouser; Supplier Part Number 6: 595-TPS76030DBVR; Eco-Plan: Green (RoHS & no Sb/Br); Vout Adj(Max)(V): 3; Vout Adj(Min)(V): 3; Mounting Technology: Surface Mount; Code_JEDEC: MO-178; ComponentLink1Description: Manufacturer URL; ComponentLink1URL: http://www.ti.com/; ComponentLink2Description: Datasheet; ComponentLink2URL: http://www.ti.com/general/docs/lit/getliterature.tsp?genericPartNumber=TPS76030&fileType=pdf; ComponentLink3Description: Package Specification; ComponentLink3URL: http://www.ti.com/litv/pdf/mpds018i
footprint TI-DBV5_N (SOT23, 5-Leads, Body 2.9x1.6mm, Pitch 0.95mm, IPC Medium Density)
footprint TI-DBV5_L (SOT23, 5-Leads, Body 2.9x1.6mm, Pitch 0.95mm, IPC High Density)
footprint TI-DBV5_M (SOT23, 5-Leads, Body 2.9x1.6mm, Pitch 0.95mm, IPC Low Density)
pins: 1 IN (power) "Input supply voltage", 2 GND (power) "Ground", 3 EN (in) "Enable input", 4 NC "No connected", 5 OUT (power) "Regulated output voltage"

## TPS76030DBVRG4
designator U?
Single Output LDO, 50 mA, Fixed 3 V Output, 3.2 to 16 V Input, with Low IQ, 5-pin SOT-23 (DBV), -40 to 125 degC, Green (RoHS & no Sb/Br); Manufacturer: Texas Instruments; PartNumber: TPS76030DBVRG4; Accuracy(%): 2; Fixed Output Options(V): 3; Iout(Max)(A): 0.05; Iq(Typ)(mA): 0.8; Rating: Catalog; SubFamily: Single Channel LDO; Vdo(Typ)(mV): 120; Vin(Max)(V): 16; Vin(Min)(V): 3.2; DatasheetVersion: SLVS144D; PackageVersion: 4073253-4/K; PackageReference: DBV5; PackageDescription: 5-Pin Plastic Small Outline, Body 1.60 × 2.90 mm, Pitch 0.95 mm; Supplier 1: Digi-Key; Supplier Part Number 1: TPS76030DBVRG4-ND; Supplier 2: Mouser; Supplier Part Number 2: 595-TPS76030DBVRG4; Eco-Plan: Green (RoHS & no Sb/Br); Vout Adj(Max)(V): 3; Vout Adj(Min)(V): 3; Mounting Technology: Surface Mount; Code_JEDEC: MO-178; ComponentLink1Description: Manufacturer URL; ComponentLink1URL: http://www.ti.com/; ComponentLink2Description: Datasheet; ComponentLink2URL: http://www.ti.com/general/docs/lit/getliterature.tsp?genericPartNumber=TPS76030&fileType=pdf; ComponentLink3Description: Package Specification; ComponentLink3URL: http://www.ti.com/litv/pdf/mpds018i
footprint TI-DBV5_N (SOT23, 5-Leads, Body 2.9x1.6mm, Pitch 0.95mm, IPC Medium Density)
footprint TI-DBV5_L (SOT23, 5-Leads, Body 2.9x1.6mm, Pitch 0.95mm, IPC High Density)
footprint TI-DBV5_M (SOT23, 5-Leads, Body 2.9x1.6mm, Pitch 0.95mm, IPC Low Density)
pins: 1 IN (power) "Input supply voltage", 2 GND (power) "Ground", 3 EN (in) "Enable input", 4 NC "No connected", 5 OUT (power) "Regulated output voltage"

## TPS76030DBVT
designator U?
Single Output LDO, 50 mA, Fixed 3 V Output, 3.2 to 16 V Input, with Low IQ, 5-pin SOT-23 (DBV), -40 to 125 degC, Green (RoHS & no Sb/Br); Manufacturer: Texas Instruments; PartNumber: TPS76030DBVT; Accuracy(%): 2; Fixed Output Options(V): 3; Iout(Max)(A): 0.05; Iq(Typ)(mA): 0.8; Rating: Catalog; SubFamily: Single Channel LDO; Vdo(Typ)(mV): 120; Vin(Max)(V): 16; Vin(Min)(V): 3.2; DatasheetVersion: SLVS144D; PackageVersion: 4073253-4/K; PackageReference: DBV5; PackageDescription: 5-Pin Plastic Small Outline, Body 1.60 × 2.90 mm, Pitch 0.95 mm; Supplier 1: Digi-Key; Supplier Part Number 1: 296-27075-2-ND; Supplier 2: Digi-Key; Supplier Part Number 2: 296-27075-1-ND; Supplier 3: Digi-Key; Supplier Part Number 3: 296-27075-6-ND; Supplier 4: Farnell; Supplier Part Number 4: 8461260RL; Supplier 5: Farnell; Supplier Part Number 5: 8461260; Supplier 6: Newark; Supplier Part Number 6: 38K8810; Supplier 7: Mouser; Supplier Part Number 7: 595-TPS76030DBVT; Eco-Plan: Green (RoHS & no Sb/Br); Vout Adj(Max)(V): 3; Vout Adj(Min)(V): 3; Mounting Technology: Surface Mount; Code_JEDEC: MO-178; ComponentLink1Description: Manufacturer URL; ComponentLink1URL: http://www.ti.com/; ComponentLink2Description: Datasheet; ComponentLink2URL: http://www.ti.com/general/docs/lit/getliterature.tsp?genericPartNumber=TPS76030&fileType=pdf; ComponentLink3Description: Package Specification; ComponentLink3URL: http://www.ti.com/litv/pdf/mpds018i
footprint TI-DBV5_N (SOT23, 5-Leads, Body 2.9x1.6mm, Pitch 0.95mm, IPC Medium Density)
footprint TI-DBV5_L (SOT23, 5-Leads, Body 2.9x1.6mm, Pitch 0.95mm, IPC High Density)
footprint TI-DBV5_M (SOT23, 5-Leads, Body 2.9x1.6mm, Pitch 0.95mm, IPC Low Density)
pins: 1 IN (power) "Input supply voltage", 2 GND (power) "Ground", 3 EN (in) "Enable input", 4 NC "No connected", 5 OUT (power) "Regulated output voltage"

## TPS76030DBVTG4
designator U?
Single Output LDO, 50 mA, Fixed 3 V Output, 3.2 to 16 V Input, with Low IQ, 5-pin SOT-23 (DBV), -40 to 125 degC, Green (RoHS & no Sb/Br); Manufacturer: Texas Instruments; PartNumber: TPS76030DBVTG4; Accuracy(%): 2; Fixed Output Options(V): 3; Iout(Max)(A): 0.05; Iq(Typ)(mA): 0.8; Rating: Catalog; SubFamily: Single Channel LDO; Vdo(Typ)(mV): 120; Vin(Max)(V): 16; Vin(Min)(V): 3.2; DatasheetVersion: SLVS144D; PackageVersion: 4073253-4/K; PackageReference: DBV5; PackageDescription: 5-Pin Plastic Small Outline, Body 1.60 × 2.90 mm, Pitch 0.95 mm; Supplier 1: Digi-Key; Supplier Part Number 1: TPS76030DBVTG4-ND; Supplier 2: Mouser; Supplier Part Number 2: 595-TPS76030DBVTG4; Eco-Plan: Green (RoHS & no Sb/Br); Vout Adj(Max)(V): 3; Vout Adj(Min)(V): 3; Mounting Technology: Surface Mount; Code_JEDEC: MO-178; ComponentLink1Description: Manufacturer URL; ComponentLink1URL: http://www.ti.com/; ComponentLink2Description: Datasheet; ComponentLink2URL: http://www.ti.com/general/docs/lit/getliterature.tsp?genericPartNumber=TPS76030&fileType=pdf; ComponentLink3Description: Package Specification; ComponentLink3URL: http://www.ti.com/litv/pdf/mpds018i
footprint TI-DBV5_N (SOT23, 5-Leads, Body 2.9x1.6mm, Pitch 0.95mm, IPC Medium Density)
footprint TI-DBV5_L (SOT23, 5-Leads, Body 2.9x1.6mm, Pitch 0.95mm, IPC High Density)
footprint TI-DBV5_M (SOT23, 5-Leads, Body 2.9x1.6mm, Pitch 0.95mm, IPC Low Density)
pins: 1 IN (power) "Input supply voltage", 2 GND (power) "Ground", 3 EN (in) "Enable input", 4 NC "No connected", 5 OUT (power) "Regulated output voltage"

## TPS76032DBVR
designator U?
Single Output LDO, 50 mA, Fixed 3.2 V Output, 3.4 to 16 V Input, with Low IQ, 5-pin SOT-23 (DBV), -40 to 125 degC, Green (RoHS & no Sb/Br); Manufacturer: Texas Instruments; PartNumber: TPS76032DBVR; Accuracy(%): 2; Fixed Output Options(V): 3.2; Iout(Max)(A): 0.05; Iq(Typ)(mA): 0.8; Rating: Catalog; SubFamily: Single Channel LDO; Vdo(Typ)(mV): 120; Vin(Max)(V): 16; Vin(Min)(V): 3.4; DatasheetVersion: SLVS144D; PackageVersion: 4073253-4/K; PackageReference: DBV5; PackageDescription: 5-Pin Plastic Small Outline, Body 1.60 × 2.90 mm, Pitch 0.95 mm; Supplier 1: Digi-Key; Supplier Part Number 1: 296-8072-2-ND; Supplier 2: Digi-Key; Supplier Part Number 2: 296-8072-1-ND; Supplier 3: Digi-Key; Supplier Part Number 3: 296-8072-6-ND; Supplier 4: Newark; Supplier Part Number 4: 83F9175; Supplier 5: Mouser; Supplier Part Number 5: 595-TPS76032DBVR; Eco-Plan: Green (RoHS & no Sb/Br); Vout Adj(Max)(V): 3.2; Vout Adj(Min)(V): 3.2; Mounting Technology: Surface Mount; Code_JEDEC: MO-178; ComponentLink1Description: Manufacturer URL; ComponentLink1URL: http://www.ti.com/; ComponentLink2Description: Datasheet; ComponentLink2URL: http://www.ti.com/general/docs/lit/getliterature.tsp?genericPartNumber=TPS76032&fileType=pdf; ComponentLink3Description: Package Specification; ComponentLink3URL: http://www.ti.com/litv/pdf/mpds018i
footprint TI-DBV5_N (SOT23, 5-Leads, Body 2.9x1.6mm, Pitch 0.95mm, IPC Medium Density)
footprint TI-DBV5_L (SOT23, 5-Leads, Body 2.9x1.6mm, Pitch 0.95mm, IPC High Density)
footprint TI-DBV5_M (SOT23, 5-Leads, Body 2.9x1.6mm, Pitch 0.95mm, IPC Low Density)
pins: 1 IN (power) "Input supply voltage", 2 GND (power) "Ground", 3 EN (in) "Enable input", 4 NC "No connected", 5 OUT (power) "Regulated output voltage"